# Altium footprint library LED.PcbLib: 48 footprints (part 3 of 3)
Each footprint in its own frame and in the unit in brackets; x right, y up, seen from the top. Pads: shape width x height; smd on the part's side, far side on the other; paste and mask are expansions set on the pad; w line width, h text height; cw(c..) or ccw(c..) is an arc to the next point about the centre after c.
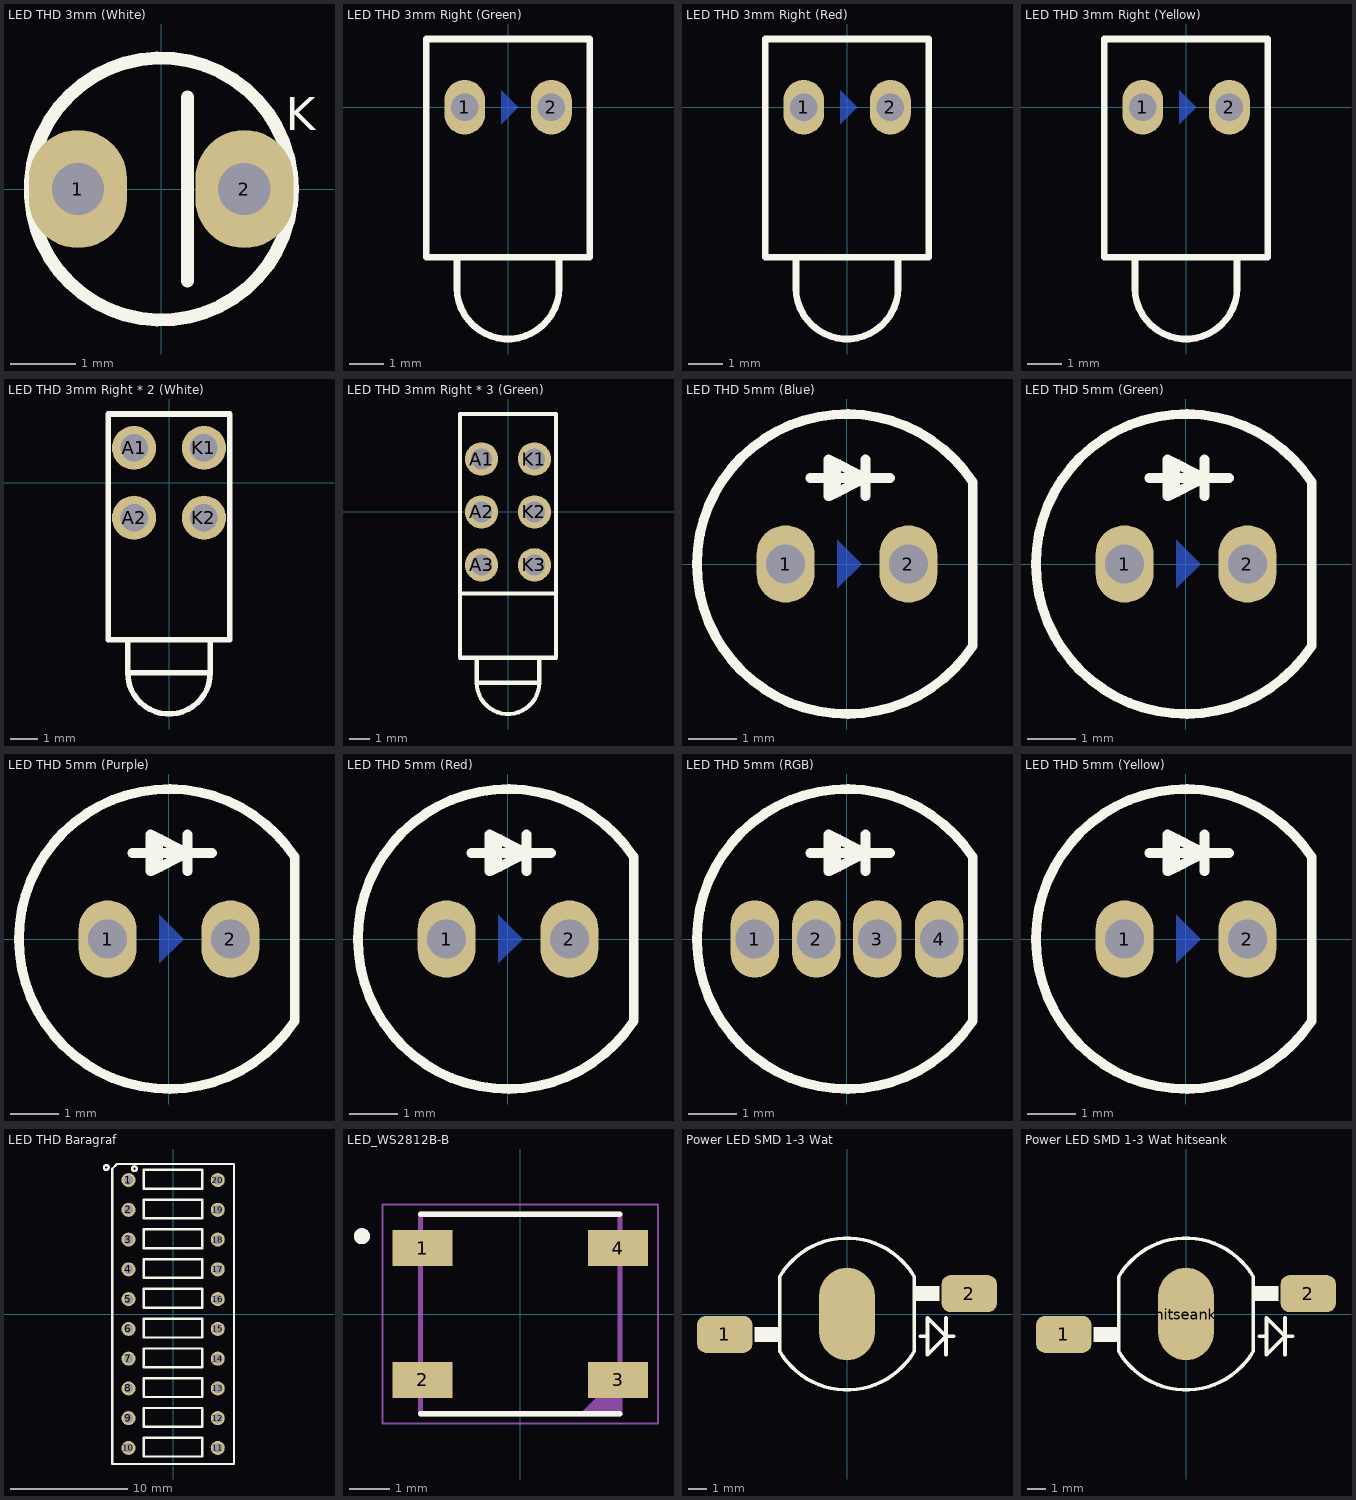
[diagram p2: the footprints below, top view; thin cyan lines are the x and y axes]

## LED THD 3mm (White) [mm]
pads (2):
  oval 1.5x1.8 hole 0.8: 1(-1.27,0) 2(1.27,0)
Top Overlay:
  circle w0.2: c0,0 r2
  lines w0.2: 0.4,-1.4 0.4,1.4
  text "K" at 1.9,0.9 h0.51
3D body "CircuitWorks-LED DIP 3MM.step": height 6.5, standoff -2, extent -1.9,-1.9 1.6,1.9

## LED THD 3mm Right (Green) [mm]
pads (2):
  oval 1.2x1.6 hole 0.8: 1(-1.27,0) 2(1.27,0)
Bottom Layer:
  region: -0.2,0.5 -0.2,-0.5 0.3,0
Top Overlay:
  lines w0.2: -1.5,-4.4 -1.5,-5.3 ccw(c0,-5.3) 1.5,-5.3 1.5,-4.4 ; -2.4,-4.4 2.4,-4.4 2.4,2 -2.4,2 -2.4,-4.4
3D body "LEDd3YC-Green.STEP": height 7.31, standoff -2.49, extent -2.323,-6.832 2.3,1.927

## LED THD 3mm Right (Red) [mm]
pads (2):
  oval 1.2x1.6 hole 0.8: 1(-1.27,0) 2(1.27,0)
Bottom Layer:
  region: -0.2,0.5 -0.2,-0.5 0.3,0
Top Overlay:
  lines w0.2: -1.5,-4.4 -1.5,-5.3 ccw(c0,-5.3) 1.5,-5.3 1.5,-4.4 ; -2.4,-4.4 2.4,-4.4 2.4,2 -2.4,2 -2.4,-4.4
3D body "LEDd3YC-Red.STEP": height 7.31, standoff -2.49, extent -2.323,-6.832 2.3,1.927

## LED THD 3mm Right (Yellow) [mm]
pads (2):
  oval 1.2x1.6 hole 0.8: 1(-1.27,0) 2(1.27,0)
Bottom Layer:
  region: -0.2,0.5 -0.2,-0.5 0.3,0
Top Overlay:
  lines w0.2: -1.5,-4.4 -1.5,-5.3 ccw(c0,-5.3) 1.5,-5.3 1.5,-4.4 ; -2.4,-4.4 2.4,-4.4 2.4,2 -2.4,2 -2.4,-4.4
3D body "LEDd3YC-Yellow.STEP": height 7.31, standoff -2.49, extent -2.323,-6.832 2.3,1.927

## LED THD 3mm Right * 2 (White) [mm]
pads (4):
  round 1.6 / inner round 1.6 / far side oval 1.6x2 hole 1: A1(-1.27,1.27) A2(-1.27,-1.27) K1(1.27,1.27) K2(1.27,-1.27)
Top Overlay:
  lines w0.2: -1.5,-5.7 -1.5,-6.9 ; 1.5,-5.7 1.5,-6.9 ; -1.5,-6.9 ccw(c0,-6.9) 1.5,-6.9 ; -1.5,-6.9 1.5,-6.9 ; -2.2,-5.7 -2.2,2.5 2.2,2.5 2.2,-5.7 -2.2,-5.7
Mechanical 29:
  text ".Designator" at -5.43,-1.27 h0.51
3D body "55307XXF.stp": height 9.65, standoff -3.68, extent -2.15,-8.55 2.168,2.448

## LED THD 3mm Right * 3 (Green) [mm]
pads (6):
  round 1.6 / inner round 1.6 / far side oval 1.6x2 hole 1: A1(-1.27,2.54) A2(-1.27,0) A3(-1.27,-2.54) K1(1.27,2.54) K2(1.27,0) K3(1.27,-2.54)
Top Overlay:
  lines w0.2: -2.3,-3.922 2.3,-3.922 ; -1.5,-7 -1.5,-8.2 ; 1.5,-7 1.5,-8.2 ; -1.5,-8.2 ccw(c0,-8.2) 1.5,-8.2 ; -1.5,-8.2 1.5,-8.2 ; -2.3,-7 -2.3,4.7 2.3,4.7 2.3,-7 -2.3,-7
3D body "LED bar 3-high 3mm.STEP": height 15.34, standoff -3.58, extent -2.16,-9.655 2.16,4.575

## LED THD 5mm (Blue) [mm]
pads (2):
  oval 1.2x1.6 hole 0.8: 1(-1.27,0) 2(1.27,0)
Bottom Layer:
  region: -0.2,0.5 -0.2,-0.5 0.3,0
Top Overlay:
  rectangle: -0.381,1.397 -0.127,2.159
  lines w0.2: -0.762,1.778 0.889,1.778 ; 0.381,1.397 0.381,2.159 ; 2.6,-1.7 2.6,1.7 ; 2.6,-1.688 cw(c0,0) 2.6,1.688 ; -0.381,1.397 0.381,1.778 -0.381,2.159 -0.381,1.397
3D body "LED-D5R.step": height 9.14, standoff -6.3, extent -3,-3 2.5,3

## LED THD 5mm (Green) [mm]
pads (2):
  oval 1.2x1.6 hole 0.8: 1(-1.27,0) 2(1.27,0)
Bottom Layer:
  region: -0.2,0.5 -0.2,-0.5 0.3,0
Top Overlay:
  rectangle: -0.381,1.397 -0.127,2.159
  lines w0.2: -0.762,1.778 0.889,1.778 ; 0.381,1.397 0.381,2.159 ; 2.6,-1.7 2.6,1.7 ; 2.6,-1.688 cw(c0,0) 2.6,1.688 ; -0.381,1.397 0.381,1.778 -0.381,2.159 -0.381,1.397
3D body "LED-D5G.step": height 9.14, standoff -6.3, extent -3,-3 2.5,3

## LED THD 5mm (Purple) [mm]
pads (2):
  oval 1.2x1.6 hole 0.8: 1(-1.27,0) 2(1.27,0)
Bottom Layer:
  region: -0.2,0.5 -0.2,-0.5 0.3,0
Top Overlay:
  rectangle: -0.381,1.397 -0.127,2.159
  lines w0.2: -0.762,1.778 0.889,1.778 ; 0.381,1.397 0.381,2.159 ; 2.6,-1.7 2.6,1.7 ; 2.6,-1.688 cw(c0,0) 2.6,1.688 ; -0.381,1.397 0.381,1.778 -0.381,2.159 -0.381,1.397
3D body "LED-D5R.step": height 9.14, standoff -6.3, extent -3,-3 2.5,3

## LED THD 5mm (Red) [mm]
pads (2):
  oval 1.2x1.6 hole 0.8: 1(-1.27,0) 2(1.27,0)
Bottom Layer:
  region: -0.2,0.5 -0.2,-0.5 0.3,0
Top Overlay:
  rectangle: -0.381,1.397 -0.127,2.159
  lines w0.2: -0.762,1.778 0.889,1.778 ; 0.381,1.397 0.381,2.159 ; 2.6,-1.7 2.6,1.7 ; 2.6,-1.688 cw(c0,0) 2.6,1.688 ; -0.381,1.397 0.381,1.778 -0.381,2.159 -0.381,1.397
3D body "LED-D5R.step": height 9.14, standoff -6.3, extent -3,-3 2.5,3

## LED THD 5mm (RGB) [mm]
pads (4):
  oval 1x1.6 hole 0.8 mask+0.1: 1(-1.905,0) 2(-0.635,0) 3(0.627,0) 4(1.905,0)
Top Overlay:
  rectangle: -0.381,1.397 -0.127,2.159
  lines w0.2: -0.762,1.778 0.889,1.778 ; 0.381,1.397 0.381,2.159 ; 2.6,-1.7 2.6,1.7 ; 2.6,-1.688 cw(c0,0) 2.6,1.688 ; -0.381,1.397 0.381,1.778 -0.381,2.159 -0.381,1.397
3D body "User Library-LED RGB.step": height 9.6, standoff -5, extent -2.827,-2.95 2.627,2.95

## LED THD 5mm (Yellow) [mm]
pads (2):
  oval 1.2x1.6 hole 0.8: 1(-1.27,0) 2(1.27,0)
Bottom Layer:
  region: -0.2,0.5 -0.2,-0.5 0.3,0
Top Overlay:
  rectangle: -0.381,1.397 -0.127,2.159
  lines w0.2: -0.762,1.778 0.889,1.778 ; 0.381,1.397 0.381,2.159 ; 2.6,-1.7 2.6,1.7 ; 2.6,-1.688 cw(c0,0) 2.6,1.688 ; -0.381,1.397 -0.381,2.159 0.381,1.778 -0.381,1.397
3D body "LED-D5Y.step": height 9.14, standoff -6.3, extent -3,-3 2.5,3

## LED THD Baragraf [mm]
pads (20):
  round 1.2 / inner round 1.2 / far side oval 2x1.2 hole 0.8: 1(-3.81,11.43) 2(-3.81,8.89) 3(-3.81,6.35) 4(-3.81,3.81) 5(-3.81,1.27) 6(-3.81,-1.27) 7(-3.81,-3.81) 8(-3.81,-6.35) 9(-3.81,-8.89) 10(-3.81,-11.43) 11(3.81,-11.43) 12(3.81,-8.89) 13(3.81,-6.35) 14(3.81,-3.81) 15(3.81,-1.27) 16(3.81,1.27) 17(3.81,3.81) 18(3.81,6.35) 19(3.81,8.89) 20(3.81,11.43)
Top Overlay:
  circle w0.2: c-3.3,12.4 r0.2
  circle w0.2: c-5.7,12.5 r0.2
  lines w0.2: -5.2,-12.8 5.2,-12.8 5.2,12.8 -4.8,12.8 -5.2,12.4 -5.2,-12.8 ; -2.5,-12.16 -2.5,-10.56 2.5,-10.56 2.5,-12.16 -2.5,-12.16 ; -2.5,-9.62 -2.5,-8.02 2.5,-8.02 2.5,-9.62 -2.5,-9.62 ; -2.5,-7.08 -2.5,-5.48 2.5,-5.48 2.5,-7.08 -2.5,-7.08 ; -2.5,-4.54 -2.5,-2.94 2.5,-2.94 2.5,-4.54 -2.5,-4.54 ; -2.5,-2 -2.5,-0.4 2.5,-0.4 2.5,-2 -2.5,-2 ; -2.5,0.54 -2.5,2.14 2.5,2.14 2.5,0.54 -2.5,0.54 ; -2.5,3.08 -2.5,4.68 2.5,4.68 2.5,3.08 -2.5,3.08 ; -2.5,5.62 -2.5,7.22 2.5,7.22 2.5,5.62 -2.5,5.62 ; -2.5,8.16 -2.5,9.76 2.5,9.76 2.5,8.16 -2.5,8.16 ; -2.5,10.7 2.5,10.7 2.5,12.3 -2.5,12.3 -2.5,10.7
3D body "User Library-LED_BAR_10.step": height 6.8, standoff -7, extent -5.08,-12.7 5.08,12.7

## LED_WS2812B-B [mm]
pads (4):
  rect 1.5x0.9 smd: 1(-2.45,1.65) 2(-2.45,-1.65) 3(2.45,-1.65) 4(2.45,1.65)
Top Overlay:
  circle w0.2: c-3.97,1.95 r0.1
  lines w0.127: -2.5,-2.5 2.5,-2.5 ; -2.5,2.5 2.5,2.5
Mechanical 13:
  circle w0.2: c-3.97,1.95 r0.1
  region: 2.5,-2.5 1.5,-2.5 2.5,-1.5
  lines w0.127: -2.5,-2.5 2.5,-2.5 2.5,2.5 -2.5,2.5 -2.5,-2.5
Mechanical 15:
  lines w0.05: -3.45,-2.75 -3.45,2.75 3.45,2.75 3.45,-2.75 -3.45,-2.75
3D body "WS2812B.step": height 1.59, standoff 0.02, extent -2.573,-2.5 2.827,2.5

## Power LED SMD 1-3 Wat [mm]
pads (3):
  rrect50% 3x2 smd: 1(-6.6,-1.1) 2(6.6,1.1)
  oval 3x5 smd: ""(0,0)
Top Overlay:
  rectangle: 3.638,0.7 5,1.5
  region: -3.637,-0.7 -5,-0.7 -5,-1.5 -3.637,-1.5
  lines w0.2: 3.95,-1.2 4.35,-1.2 ; 5.35,-2.2 5.35,-0.2 ; 5.75,-1.2 5.35,-1.2 ; 5.35,-1.2 4.35,-0.2 4.35,-2.2 5.35,-1.2 ; -3.637,-2 ccw(c0,0.1) 3.637,-2 3.637,2 ccw(c0,-0.1) -3.637,2 -3.637,-2
3D body "SW3dPS-Power LED2.STEP": height 5.55, standoff 0, extent -7.25,-4 7.25,4

## Power LED SMD 1-3 Wat hitseank [mm]
pads (3):
  rrect50% 3x2 smd: 1(-6.6,-1.1) 2(6.6,1.1)
  oval 3x5 smd: hitseank(0,0)
Top Overlay:
  rectangle: 3.638,0.7 5,1.5
  region: -3.637,-0.7 -5,-0.7 -5,-1.5 -3.637,-1.5
  lines w0.2: 3.95,-1.2 4.35,-1.2 ; 5.35,-2.2 5.35,-0.2 ; 5.75,-1.2 5.35,-1.2 ; 5.35,-1.2 4.35,-0.2 4.35,-2.2 5.35,-1.2 ; -3.637,-2 ccw(c0,0.1) 3.637,-2 3.637,2 ccw(c0,-0.1) -3.637,2 -3.637,-2
3D body "SW3dPS-Power LED2.STEP": height 5.55, standoff 0, extent -7.25,-4 7.25,4